# Altium schematic symbol library sensor.SchLib: 1 symbol
Pins are listed as number, name and electrical type; pins without a type are passive.

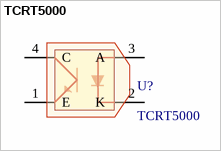
[diagram p0: symbol TCRT5000]

## TCRT5000
designator U?
IR sensor
footprint TCRT5000 (IR sensor)
pins: 1 E, 2 K, 3 A, 4 C